# Altium schematic symbol library 2EDGVC-5.0-05P-14-00A(H).SchLib: 1 symbol
Pins are listed as number, name and electrical type; pins without a type are passive.

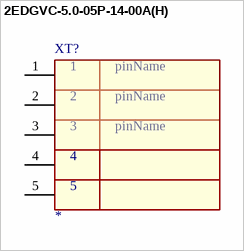
[diagram p0: symbol 2EDGVC-5.0-05P-14-00A(H)]

## 2EDGVC-5.0-05P-14-00A(H)
designator XT?  Pin info 3: pinName
Pin info 2: pinName; Pin info 1: pinName
footprint 2EDGVC-5.0-05P-14-00A(H)
pins: 1 0, 2 0, 3 0, 4 0, 5 0